# Altium schematic symbol library USB4125-GF-A-0190_REVA2.SchLib: 1 symbol
Pins are listed as number, name and electrical type; pins without a type are passive.

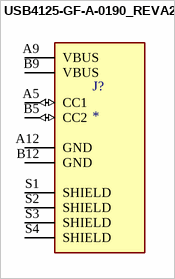
[diagram p0: symbol USB4125-GF-A-0190_REVA2]

## USB4125-GF-A-0190_REVA2
designator J?
Type C Receptacle, Horizontal, SMT, For Power Charging Only; MF: Global Connector Technology; MP: USB4125-GF-A-0190; Price: None; Check_prices: https://www.snapeda.com/parts/USB4125-GF-A-0190/Global%20Connector%20Technology/view-part/6227012/?ref=eda; Package: None; Value: *; SnapEDA_Link: https://www.snapeda.com/parts/USB4125-GF-A-0190/Global%20Connector%20Technology/view-part/6227012/?ref=snap; Availability: No availability data
footprint GCT_USB4125-GF-A-0190_REVA2
pins: A5 CC1 (io), A9 VBUS (power), A12 GND (power), B5 CC2 (io), B9 VBUS (power), B12 GND (power), S1 SHIELD, S2 SHIELD, S3 SHIELD, S4 SHIELD